# Altium schematic symbol library AIMTEC.SchLib: 2 symbols
Pins are listed as number, name and electrical type; pins without a type are passive.

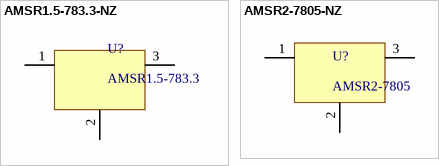
[diagram p0: symbols AMSR1.5-783.3-NZ to AMSR2-7805-NZ]

## AMSR1.5-783.3-NZ
designator U?, comment AMSR1.5-783.3
AMSR 12/3.3 DC/DC
pins: 1, 2, 3

## AMSR2-7805-NZ
designator U?, comment AMSR2-7805
AMSR 12/5 DC/DC
pins: 1, 2, 3